# Altium footprint library Power_Distribution_Board_PcbLib.PcbLib: 26 footprints (part 2 of 2)
Each footprint in its own frame and in the unit in brackets; x right, y up, seen from the top. Pads: shape width x height; smd on the part's side, far side on the other; paste and mask are expansions set on the pad; w line width, h text height; cw(c..) or ccw(c..) is an arc to the next point about the centre after c.
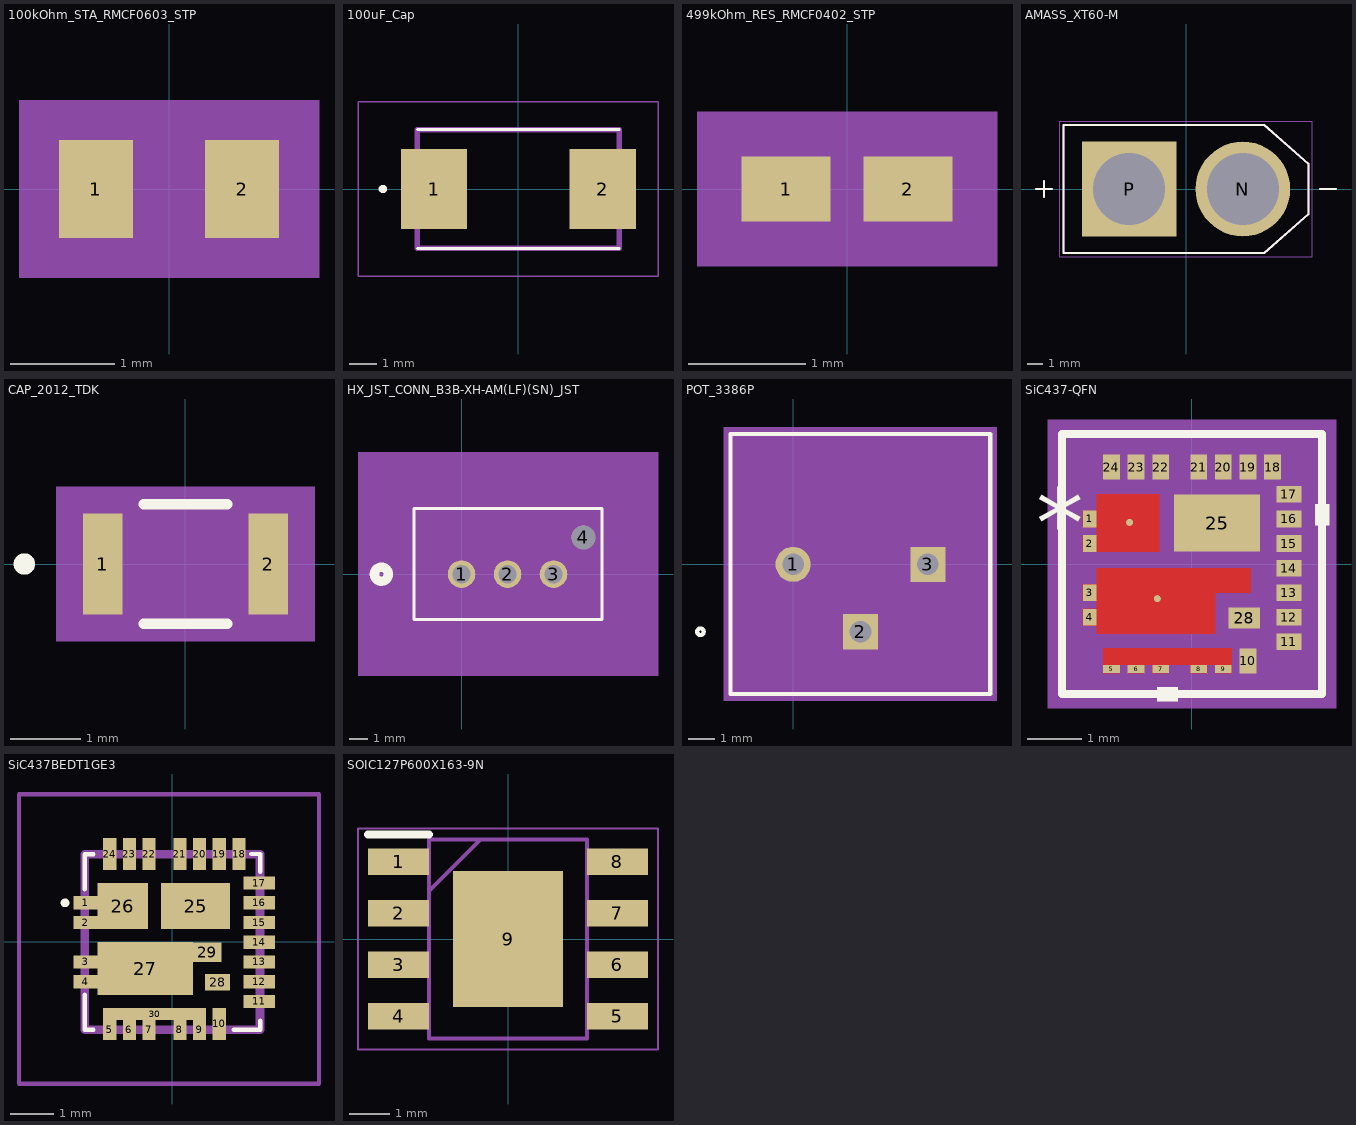
[diagram p1: the footprints below, top view; thin cyan lines are the x and y axes]

## 100kOhm_STA_RMCF0603_STP [mil]
pads (2):
  rect 28x37 smd paste+0 mask+0: 1(-27.5,0) 2(27.5,0)
Mechanical 5:
  region: 56.5,-33.5 -56.5,-33.5 -56.5,33.5 56.5,33.5
Mechanical 13:
  lines w1: -33.5,-18.5 -33.5,18.5 ; -33.5,-18.5 33.5,-18.5 ; -33.5,-18.5 -13.5,-18.5 -13.5,18.5 -33.5,18.5 ; -33.5,-18.5 -33.5,18.5 ; -33.5,18.5 33.5,18.5 ; 33.5,-18.5 33.5,18.5 ; 33.5,-18.5 33.5,18.5 ; 33.5,-18.5 13.5,-18.5 13.5,18.5 33.5,18.5
Mechanical 15:
  region: 51.5,-28.5 -51.5,-28.5 -51.5,28.5 51.5,28.5
  lines w6: -51.5,-28.5 51.5,-28.5 51.5,28.5 -51.5,28.5 -51.5,-28.5
3D body "STA_RMCF0603_STP.step": height 22.01, standoff 0, extent -33.5,-18.5 33.5,18.5

## 100uF_Cap [mm]
pads (2):
  rect 2.4x2.9 smd: 1(-3.05,0) 2(3.05,0)
Top Overlay:
  circle w0.2: c-4.9,0 r0.05
  lines w0.1: -3.65,-2.15 3.65,-2.15 ; -3.65,2.15 3.65,2.15
Mechanical 13:
  lines w0.2: -3.65,-2.15 -3.65,2.15 3.65,2.15 3.65,-2.15 -3.65,-2.15
Mechanical 15:
  lines w0.05: -5.8,-3.15 -5.8,3.15 5.05,3.15 5.05,-3.15 -5.8,-3.15
3D body "20TQC100MYF.stp": height 1.57, standoff 1.57, extent 0,0 0,0

## 499kOhm_RES_RMCF0402_STP [mil]
pads (2):
  rect 30x22 smd paste+0 mask+0: 1(-20.5,0) 2(20.5,0)
Mechanical 5:
  region: 50.5,-26 -50.5,-26 -50.5,26 50.5,26
Mechanical 13:
  lines w1: -21.5,-11 -21.5,11 ; -21.5,-11 -5.5,-11 -5.5,11 -21.5,11 ; -21.5,-11 21.5,-11 ; -21.5,-11 -21.5,11 ; -21.5,11 21.5,11 ; 21.5,-11 5.5,-11 5.5,11 21.5,11 ; 21.5,-11 21.5,11 ; 21.5,-11 21.5,11
Mechanical 15:
  region: 45.5,-21 -45.5,-21 -45.5,21 45.5,21
  lines w6: -45.5,-21 -45.5,21 45.5,21 45.5,-21 -45.5,-21
3D body "RES_RMCF0402_STP.step": height 14.02, standoff 0, extent -21.5,-10.98 21.5,10.98

## AMASS_XT60-M [mm]
height 16
pads (2):
  round 6 hole 4.55: N(3.6,0)
  rect 6x6 hole 4.55: P(-3.6,0)
Top Overlay:
  lines w0.127: -9.5,0 -8.5,0 ; -9,-0.5 -9,0.5 ; 8.5,0 9.5,0 ; -7.75,-4.05 4.95,-4.05 7.75,-1.6 7.75,1.6 4.95,4.05 -7.75,4.05 -7.75,-4.05
Mechanical 13:
  lines w0.127: -9.5,0 -8.5,0 ; -9,-0.5 -9,0.5 ; 8.5,0 9.5,0 ; -7.75,-4.05 4.95,-4.05 7.75,-1.6 7.75,1.6 4.95,4.05 -7.75,4.05 -7.75,-4.05
Mechanical 15:
  lines w0.05: -8,-4.3 -8,4.3 8,4.3 8,-4.3 -8,-4.3
3D body "step_temp.STEP": height 16.01, standoff -4.49, extent -7.626,-4.064 7.874,4.036

## CAP_2012_TDK [mil]
pads (2):
  rect 22x57 smd paste+0 mask+0: 1(-46.5,0) 2(46.5,0)
Top Overlay:
  circle w6: c-90.5,0 r3
  lines w6: -23.39,-33.5 23.39,-33.5 ; -23.39,33.5 23.39,33.5
Mechanical 5:
  region: 72.5,-43.5 -72.5,-43.5 -72.5,43.5 72.5,43.5
Mechanical 13:
  circle w0: c-41.5,0 r3
  lines w1: -43.5,-28.5 -43.5,28.5 ; -43.5,-28.5 -35.5,-28.5 -35.5,28.5 -43.5,28.5 ; -43.5,-28.5 43.5,-28.5 ; -43.5,-28.5 -43.5,28.5 ; -43.5,28.5 43.5,28.5 ; 43.5,-28.5 35.5,-28.5 35.5,28.5 43.5,28.5 ; 43.5,-28.5 43.5,28.5 ; 43.5,-28.5 43.5,28.5
Mechanical 15:
  region: 67.5,-38.5 -67.5,-38.5 -67.5,38.5 67.5,38.5
  lines w6: -67.5,-38.5 -67.5,38.5 67.5,38.5 67.5,-38.5 -67.5,-38.5
3D body "CAP_2012_TDK.step": height 49.02, standoff 0, extent -43.5,-28.5 43.5,28.5

## HX_JST_CONN_B3B-XH-AM(LF)(SN)_JST [mil]
pads (4):
  round 59 hole 39 mask+0: 1(0,0) 2(98.43,0) 3(196.85,0)
  round 51 hole 51 unplated: 4(260.83,78.74)
Top Overlay:
  circle w20: c-171.59,0 r15
  lines w6: -101.59,-97.17 -101.59,140.83 300.41,140.83 300.41,-97.17 -101.59,-97.17
Bottom Overlay:
  circle w20: c-171.59,0 r15
Mechanical 5:
  region: -221.59,260.83 420.41,260.83 420.41,-217.17 -221.59,-217.17
Mechanical 13:
  circle w20: c0,-75 r15
  lines w1: -96.59,-92.17 -96.59,135.83 295.41,135.83 295.41,-92.17 -96.59,-92.17
Mechanical 15:
  region: 305.41,145.83 -106.59,145.83 -106.59,-102.17 305.41,-102.17
  lines w6: -106.59,-102.17 305.41,-102.17 305.41,145.83 -106.59,145.83 -106.59,-102.17

## POT_3386P [mil]
pads (3):
  round 52 hole 32 mask+0: 1(0,0)
  rect 52x52 hole 32 mask+0: 2(100,-100) 3(200,0)
Top Overlay:
  circle w6: c-137.5,-100 r5
  lines w6: -92.5,-192 292.5,-192 292.5,193 -92.5,193 -92.5,-192
Mechanical 5:
  region: -102.5,203 302.5,203 302.5,-202 -102.5,-202
Mechanical 13:
  circle w0: c-67.5,-100 r5
  lines w1: -87.5,-187 287.5,-187 287.5,188 -87.5,188 -87.5,-187
Mechanical 15:
  region: 297.5,-197 -97.5,-197 -97.5,198 297.5,198
  lines w6: -97.5,-197 -97.5,198 297.5,198 297.5,-197 -97.5,-197

## SiC437-QFN [mil] "PMIC"
pads (28):
  rect 10x12 smd: 1(-73.74,32.48) 2(-73.74,14.76) 3(-73.74,-20.67) 4(-73.74,-38.39)
  rect 12x6 smd paste+0 mask+0: 5(-58.08,-75.74) 6(-40.36,-75.74) 7(-22.64,-75.74) 8(4.92,-75.74) 9(22.64,-75.74)
  rect 12x18 smd paste-6 mask+0: 10(40.36,-69.88) 18(58.08,69.88) 19(40.36,69.88) 20(22.64,69.88) 21(4.92,69.88) 22(-22.64,69.88) 23(-40.36,69.88) 24(-58.08,69.88)
  rect 18x12 smd paste-6 mask+0: 11(69.88,-56.1) 12(69.88,-38.39) 13(69.88,-20.67) 14(69.88,-2.95) 15(69.88,14.76) 16(69.88,32.48) 17(69.88,50.2)
  rect 62x41.34 smd paste+0 mask+0: 25(18.07,29.53)
  round 5 smd: 26(-45,30) 27(-25,-25)
  rect 22.84x14.96 smd: 28(37.65,-38.98)
Top Layer:
  region: -52.08,-78.74 -64.08,-78.74 -64.08,-60.88 28.64,-60.88 28.64,-78.74 16.64,-78.74 16.64,-72.74 10.92,-72.74 10.92,-78.74 -1.08,-78.74 -1.08,-72.74 -16.64,-72.74 -16.64,-78.74 -28.64,-78.74 -28.64,-72.74 -34.36,-72.74 -34.36,-78.74 -46.36,-78.74 -46.36,-72.74 -52.08,-72.74
  region: -78.74,26.48 -78.74,38.48 -68.74,38.48 -68.74,50.2 -23.46,50.2 -23.46,8.86 -78.74,8.76 -78.74,20.76 -68.74,20.76 -68.74,26.48
  region: 16.89,-50.22 -68.74,-50.22 -68.74,-44.39 -78.74,-44.39 -78.74,-32.39 -68.74,-32.39 -68.74,-26.67 -78.74,-26.67 -78.74,-14.67 -68.74,-14.67 -68.74,-2.97 42.48,-2.97 42.48,-20.89 16.89,-20.89
Top Overlay:
  region: -10.22,-88.88 -25.22,-88.88 -25.22,-98.88 -10.22,-98.88
  region: 88.88,42.93 98.88,42.93 98.88,27.93 88.88,27.93
  lines w6: -93.74,-93.74 93.74,-93.74 93.74,93.74 -93.74,93.74 -93.74,-93.74
  text "*" at -112.5,5 h50
Top Paste:
  region: -68.74,-14.67 -68.74,-2.97 42.48,-2.97 42.48,-20.89 16.89,-20.89 16.89,-50.22 -68.74,-50.22 -68.74,-44.39 -78.74,-44.39 -78.74,-32.39 -68.74,-32.39 -68.74,-26.67 -78.74,-26.67 -78.74,-14.67
  region: -16.64,-78.74 -28.64,-78.74 -28.64,-72.74 -34.36,-72.74 -34.36,-78.74 -46.36,-78.74 -46.36,-72.74 -52.08,-72.74 -52.08,-78.74 -64.08,-78.74 -64.08,-60.88 28.64,-60.88 28.64,-78.74 16.64,-78.74 16.64,-72.74 10.92,-72.74 10.92,-78.74 -1.08,-78.74 -1.08,-72.74 -16.64,-72.74
  region: -78.74,26.48 -78.74,38.48 -68.74,38.48 -68.74,50.2 -23.46,50.2 -23.46,8.86 -78.74,8.76 -78.74,20.76 -68.74,20.76 -68.74,26.48
Top Solder:
  region: -78.74,26.48 -78.74,38.48 -68.74,38.48 -68.74,50.2 -23.46,50.2 -23.46,8.86 -78.74,8.76 -78.74,20.76 -68.74,20.76 -68.74,26.48
  region: 16.89,-50.22 -68.74,-50.22 -68.74,-44.39 -78.74,-44.39 -78.74,-32.39 -68.74,-32.39 -68.74,-26.67 -78.74,-26.67 -78.74,-14.67 -68.74,-14.67 -68.74,-2.97 42.48,-2.97 42.48,-20.89 16.89,-20.89
  region: -64.08,-78.74 -64.08,-60.88 28.64,-60.88 28.64,-78.74 16.64,-78.74 16.64,-72.74 10.92,-72.74 10.92,-78.74 -1.08,-78.74 -1.08,-72.74 -16.64,-72.74 -16.64,-78.74 -28.64,-78.74 -28.64,-72.74 -34.36,-72.74 -34.36,-78.74 -46.36,-78.74 -46.36,-72.74 -52.08,-72.74 -52.08,-78.74
Mechanical 5:
  region: 103.88,-103.88 -103.88,-103.88 -103.88,103.88 103.88,103.88
Mechanical 13:
  lines w1: -78.74,28.74 -28.74,78.74 ; -78.74,-78.74 78.74,-78.74 78.74,78.74 -78.74,78.74 -78.74,-78.74
  text "*" at -92.5,85 h50
Mechanical 15:
  region: -69.16,-88.74 -88.74,-88.74 -88.74,-69.15 -88.88,-69.15 -88.88,69.15 -88.74,69.15 -88.74,88.74 -69.16,88.74 -69.16,88.88 69.16,88.88 69.16,88.74 88.74,88.74 88.74,69.15 88.88,69.15 88.88,-69.15 88.74,-69.15 88.74,-88.74 69.16,-88.74 69.16,-88.88 -69.16,-88.88
  lines w6: -88.88,-69.15 -88.74,-69.15 -88.74,-88.74 -69.16,-88.74 -69.16,-88.88 69.16,-88.88 69.16,-88.74 88.74,-88.74 88.74,-69.15 88.88,-69.15 88.88,69.15 88.74,69.15 88.74,88.74 69.16,88.74 69.16,88.88 -69.16,88.88 -69.16,88.74 -88.74,88.74 -88.74,69.15 -88.88,69.15 -88.88,-69.15

## SiC437BEDT1GE3 [mm]
pads (30):
  rect 0.55x0.3 smd: 1(-1.981,0.894) 2(-1.981,0.444) 3(-1.981,-0.456) 4(-1.981,-0.906)
  rect 0.3x0.45 smd: 5(-1.431,-2.006) 6(-0.981,-2.006) 7(-0.531,-2.006) 8(0.169,-2.006) 9(0.619,-2.006)
  rect 0.3x0.725 smd: 10(1.069,-1.869) 18(1.519,2.006) 19(1.069,2.006) 20(0.619,2.006) 21(0.169,2.006) 22(-0.531,2.006) 23(-0.981,2.006) 24(-1.431,2.006)
  rect 0.725x0.3 smd: 11(1.981,-1.356) 12(1.981,-0.906) 13(1.981,-0.456) 14(1.981,-0.006) 15(1.981,0.444) 16(1.981,0.894) 17(1.981,1.344)
  rect 1.575x1.05 smd: 25(0.531,0.819)
  rect 1.15x1.05 smd: 26(-1.131,0.819)
  rect 2.175x1.2 smd: 27(-0.619,-0.606)
  rect 0.58x0.38 smd: 28(1.029,-0.921)
  rect 0.65x0.455 smd: 29(0.794,-0.234)
  rect 2.35x0.275 smd: 30(-0.406,-1.644)
Top Overlay:
  lines w0.1: -2,-1.2 -2,-2.006 -1.8,-2.006 ; -2,1.2 -2,2 -1.8,2 ; 1.4,-2.006 2,-2.006 2,-1.8 ; 1.8,2.006 2,2.006 2,1.6 ; -2.5,0.894 cw(c-2.45,0.894) -2.4,0.894 cw(c-2.45,0.894) -2.5,0.894
Mechanical 13:
  lines w0.2: -2,-2 2,-2 2,2 -2,2 -2,-2
Mechanical 15:
  lines w0.1: -3.5,-3.232 3.344,-3.232 3.344,3.368 -3.5,3.368 -3.5,-3.232
3D body "SiC437BED-T1-GE3.stp": height 0.9, standoff 0, extent -2,-2 2,2

## SOIC127P600X163-9N [mm]
pads (9):
  rect 1.5x0.65 smd: 1(-2.7,1.905) 2(-2.7,0.635) 3(-2.7,-0.635) 4(-2.7,-1.905) 5(2.7,-1.905) 6(2.7,-0.635) 7(2.7,0.635) 8(2.7,1.905)
  rect 2.71x3.35 smd: 9(0,0)
Top Overlay:
  lines w0.2: -3.45,2.58 -1.95,2.58
Mechanical 13:
  lines w0.1: -1.95,1.18 -0.68,2.45 ; -1.95,-2.45 -1.95,2.45 1.95,2.45 1.95,-2.45 -1.95,-2.45
Mechanical 15:
  lines w0.05: -3.7,-2.725 -3.7,2.725 3.7,2.725 3.7,-2.725 -3.7,-2.725
3D body "AP64500SP-13.stp": height 1.63, standoff 0, extent -3,-2.45 3,2.45